# EAGLE library part KUSBX-SMT2AP5S-X (library con-usb)
TYPE-A Receptacle, KYCON
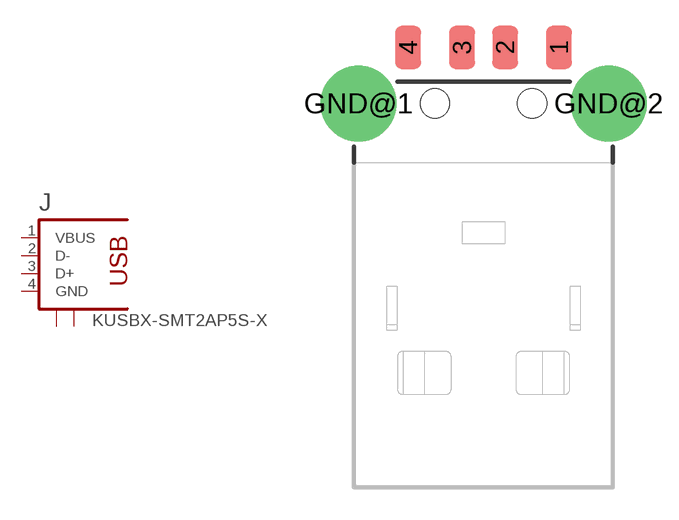
[diagram p10: symbol with the pads of KUSBX-SMT2AP5S-X; footprint KUSBX-SMT2AP5S-X]

Designator prefix J

## KUSBX-SMT2AP5S-X  [KUSBX-SMT2AP5S-X]
1  VBUS  pas
2  D-  pas
3  D+  pas
4  GND  pas
GND@1  S1  pas
GND@2  S2  pas

## Footprint KUSBX-SMT2AP5S-X (pad centres in mm)
KYCON - Type-A
smd 1.2 x 2: 1 3.5,2.6; 2 1,2.6; 3 -1,2.6; 4 -3.5,2.6
drill 2.5: GND@1 -5.8,0; GND@2 5.8,0
hole 1.35 at -2.25,0
hole 1.35 at 2.25,0